# EAGLE library part A4960 (library A4960)
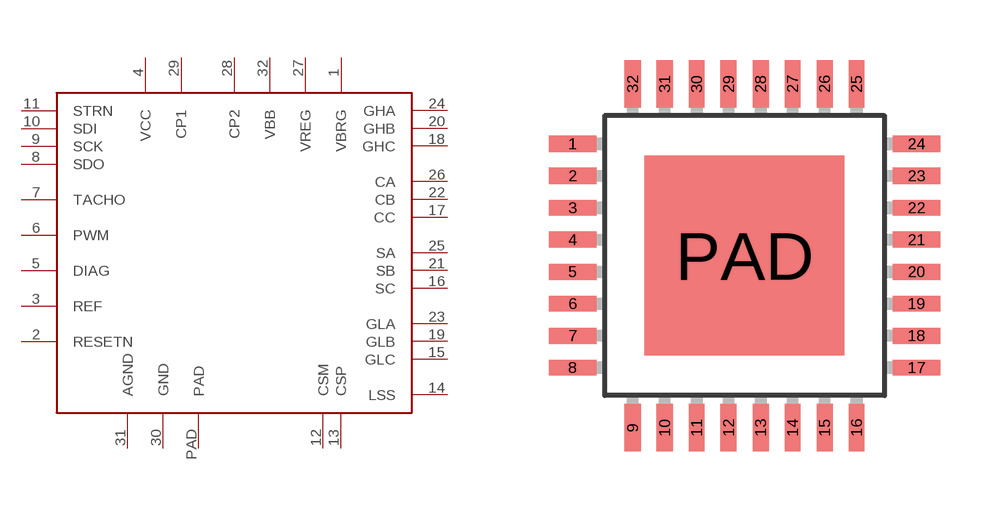
[diagram p0: symbol with the pads of LQFP32-7X7; footprint LQFP32-7X7]

Designator prefix IC

## A4960  [LQFP32-7X7]
1  VBRG  pwr
2  RESETN
3  REF  in
4  VCC  pwr
5  DIAG
6  PWM  out
7  TACHO
8  SDO  out
9  SCK  in
10  SDI  in
11  STRN  in
12  CSM  in
13  CSP  in
14  LSS  in
15  GLC
16  SC
17  CC
18  GHC
19  GLB
20  GHB
21  SB
22  CB
23  GLA
24  GHA
25  SA
26  CA
27  VREG  pwr
28  CP2
29  CP1
30  GND  pwr
31  AGND  pwr
32  VBB  pwr
PAD  PAD  pwr

## Footprint LQFP32-7X7 (pad centres in mm)
LQFP-32 package 7x7 mm case, 0.8 mm lead pitch Sourced: Data sheet <http://www.st.com/stonline/products/literature/ds/14771/stm8s105c4.pdf>
smd 1.2 x 0.4: 1 -4.3,2.8; 2 -4.3,2; 3 -4.3,1.2; 4 -4.3,0.4; 5 -4.3,-0.4; 6 -4.3,-1.2; 7 -4.3,-2; 8 -4.3,-2.8; 17 4.3,-2.8; 18 4.3,-2; 19 4.3,-1.2; 20 4.3,-0.4; 21 4.3,0.4; 22 4.3,1.2; 23 4.3,2; 24 4.3,2.8
smd 0.4 x 1.2: 9 -2.8,-4.3; 10 -2,-4.3; 11 -1.2,-4.3; 12 -0.4,-4.3; 13 0.4,-4.3; 14 1.2,-4.3; 15 2,-4.3; 16 2.8,-4.3; 25 2.8,4.3; 26 2,4.3; 27 1.2,4.3; 28 0.4,4.3; 29 -0.4,4.3; 30 -1.2,4.3; 31 -2,4.3; 32 -2.8,4.3
smd 5 x 5: PAD 0,0